# Altium schematic symbol library WR-MPC5.SchLib: 52 symbols
Pins are listed as number, name and electrical type; pins without a type are passive.

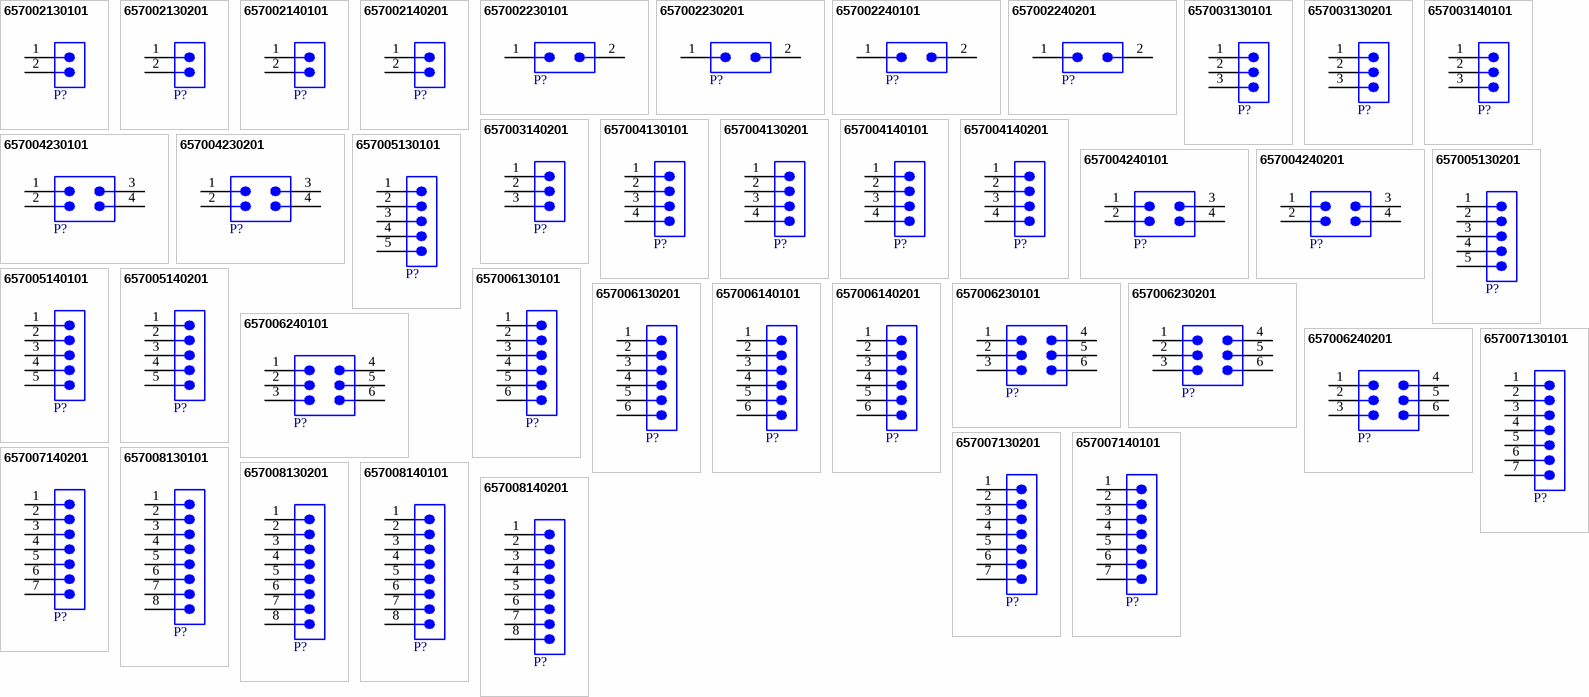
[diagram p0: symbols 657002130101 to 657008140201]

## 657002130101
designator P?  (value not drawn)
WR-MPC5 5.70 mm Male Header Single Row Right Angled, 2p; Manufacturer: Wurth Elektronik; Contact Resistance: 2mOhm; Pitch: 5.7mm; Rated Current: 26A; Working Voltage: 600V (AC); Manufacturer Part Number: 657002130101; Category: Wire-to-Board Connectors; Match Code: WR-MPC5; ComponentLink1Description: Website Link; ComponentLink1URL: https://www.we-online.com/redexpert/article/657002130101?ad; ComponentLink2Description: Datasheet Link; ComponentLink2URL: https://www.we-online.com/redexpert/spec/657002130101?ad; Mount: Through Hole; Operating Temperature Max: 105°C; Operating Temperature Min: -40°C; Packaging: Tray; Gender: Male; Number of Pins: 2; Number of Rows: 1; Orientation: Right Angled
footprint 657002130101
pins: 1, 2

## 657002130201
designator P?  (value not drawn)
WR-MPC5 5.70 mm Male Header Single Row Vertical, 2p; Manufacturer: Wurth Elektronik; Contact Resistance: 2mOhm; Pitch: 5.7mm; Rated Current: 26A; Working Voltage: 600V (AC); Manufacturer Part Number: 657002130201; Category: Wire-to-Board Connectors; Match Code: WR-MPC5; ComponentLink1Description: Website Link; ComponentLink1URL: https://www.we-online.com/redexpert/article/657002130201?ad; ComponentLink2Description: Datasheet Link; ComponentLink2URL: https://www.we-online.com/redexpert/spec/657002130201?ad; Mount: Through Hole; Operating Temperature Max: 105°C; Operating Temperature Min: -40°C; Packaging: Tray; Gender: Male; Number of Pins: 2; Number of Rows: 1; Orientation: Vertical
footprint 657002130201
pins: 1, 2

## 657002140101
designator P?  (value not drawn)
WR-MPC5 5.70 mm Male Header Single Row Right Angled with Snap-in Plastic Pegs, 2p; Manufacturer: Wurth Elektronik; Contact Resistance: 2mOhm; Pitch: 5.7mm; Rated Current: 26A; Working Voltage: 600V (AC); Manufacturer Part Number: 657002140101; Category: Wire-to-Board Connectors; Match Code: WR-MPC5; ComponentLink1Description: Website Link; ComponentLink1URL: https://www.we-online.com/redexpert/article/657002140101?ad; ComponentLink2Description: Datasheet Link; ComponentLink2URL: https://www.we-online.com/redexpert/spec/657002140101?ad; Mount: Through Hole; Operating Temperature Max: 105°C; Operating Temperature Min: -40°C; Packaging: Tray; Gender: Male; Number of Pins: 2; Number of Rows: 1; Orientation: Right Angled
footprint 657002140101
pins: 1, 2

## 657002140201
designator P?  (value not drawn)
WR-MPC5 5.70 mm Male Header Single Row Vertical with Snap-in Plastic Pegs, 2p; Manufacturer: Wurth Elektronik; Contact Resistance: 2mOhm; Pitch: 5.7mm; Rated Current: 26A; Working Voltage: 600V (AC); Manufacturer Part Number: 657002140201; Category: Wire-to-Board Connectors; Match Code: WR-MPC5; ComponentLink1Description: Website Link; ComponentLink1URL: https://www.we-online.com/redexpert/article/657002140201?ad; ComponentLink2Description: Datasheet Link; ComponentLink2URL: https://www.we-online.com/redexpert/spec/657002140201?ad; Mount: Through Hole; Operating Temperature Max: 105°C; Operating Temperature Min: -40°C; Packaging: Tray; Gender: Male; Number of Pins: 2; Number of Rows: 1; Orientation: Vertical
footprint 657002140201
pins: 1, 2

## 657002230101
designator P?  (value not drawn)
WR-MPC5 5.70 mm Male Header Dual Row Right Angled, 2p; Manufacturer: Wurth Elektronik; Contact Resistance: 2mOhm; Pitch: 5.7mm; Rated Current: 26A; Working Voltage: 600V (AC); Manufacturer Part Number: 657002230101; Category: Wire-to-Board Connectors; Match Code: WR-MPC5; ComponentLink1Description: Website Link; ComponentLink1URL: https://www.we-online.com/redexpert/article/657002230101?ad; ComponentLink2Description: Datasheet Link; ComponentLink2URL: https://www.we-online.com/redexpert/spec/657002230101?ad; Mount: Through Hole; Operating Temperature Max: 105°C; Operating Temperature Min: -40°C; Packaging: Tray; Gender: Male; Number of Pins: 2; Number of Rows: 2; Orientation: Right Angled
footprint 657002230101
pins: 1, 2

## 657002230201
designator P?  (value not drawn)
WR-MPC5 5.70 mm Male Header Dual Row Vertical, 2p; Manufacturer: Wurth Elektronik; Contact Resistance: 2mOhm; Pitch: 5.7mm; Rated Current: 26A; Working Voltage: 600V (AC); Manufacturer Part Number: 657002230201; Category: Wire-to-Board Connectors; Match Code: WR-MPC5; ComponentLink1Description: Website Link; ComponentLink1URL: https://www.we-online.com/redexpert/article/657002230201?ad; ComponentLink2Description: Datasheet Link; ComponentLink2URL: https://www.we-online.com/redexpert/spec/657002230201?ad; Mount: Through Hole; Operating Temperature Max: 105°C; Operating Temperature Min: -40°C; Packaging: Tray; Gender: Male; Number of Pins: 2; Number of Rows: 2; Orientation: Vertical
footprint 657002230201
pins: 1, 2

## 657002240101
designator P?  (value not drawn)
WR-MPC5 5.70 mm Male Header Dual Row Right Angled with Snap-in Plastic Pegs, 2p; Manufacturer: Wurth Elektronik; Contact Resistance: 2mOhm; Pitch: 5.7mm; Rated Current: 26A; Working Voltage: 600V (AC); Manufacturer Part Number: 657002240101; Category: Wire-to-Board Connectors; Match Code: WR-MPC5; ComponentLink1Description: Website Link; ComponentLink1URL: https://www.we-online.com/redexpert/article/657002240101?ad; ComponentLink2Description: Datasheet Link; ComponentLink2URL: https://www.we-online.com/redexpert/spec/657002240101?ad; Mount: Through Hole; Operating Temperature Max: 105°C; Operating Temperature Min: -40°C; Packaging: Tray; Gender: Male; Number of Pins: 2; Number of Rows: 2; Orientation: Right Angled
footprint 657002240101
pins: 1, 2

## 657002240201
designator P?  (value not drawn)
WR-MPC5 5.70 mm Male Header Dual Row Vertical with Snap-in Plastic Pegs, 2p; Manufacturer: Wurth Elektronik; Contact Resistance: 2mOhm; Pitch: 5.7mm; Rated Current: 26A; Working Voltage: 600V (AC); Manufacturer Part Number: 657002240201; Category: Wire-to-Board Connectors; Match Code: WR-MPC5; ComponentLink1Description: Website Link; ComponentLink1URL: https://www.we-online.com/redexpert/article/657002240201?ad; ComponentLink2Description: Datasheet Link; ComponentLink2URL: https://www.we-online.com/redexpert/spec/657002240201?ad; Mount: Through Hole; Operating Temperature Max: 105°C; Operating Temperature Min: -40°C; Packaging: Tray; Gender: Male; Number of Pins: 2; Number of Rows: 2; Orientation: Vertical
footprint 657002240201
pins: 1, 2

## 657003130101
designator P?  (value not drawn)
WR-MPC5 5.70 mm Male Header Single Row Right Angled, 3p; Manufacturer: Wurth Elektronik; Contact Resistance: 2mOhm; Pitch: 5.7mm; Rated Current: 26A; Working Voltage: 600V (AC); Manufacturer Part Number: 657003130101; Category: Wire-to-Board Connectors; Match Code: WR-MPC5; ComponentLink1Description: Website Link; ComponentLink1URL: https://www.we-online.com/redexpert/article/657003130101?ad; ComponentLink2Description: Datasheet Link; ComponentLink2URL: https://www.we-online.com/redexpert/spec/657003130101?ad; Mount: Through Hole; Operating Temperature Max: 105°C; Operating Temperature Min: -40°C; Packaging: Tray; Gender: Male; Number of Pins: 3; Number of Rows: 1; Orientation: Right Angled
footprint 657003130101
pins: 1, 2, 3

## 657003130201
designator P?  (value not drawn)
WR-MPC5 5.70 mm Male Header Single Row Vertical, 3p; Manufacturer: Wurth Elektronik; Contact Resistance: 2mOhm; Pitch: 5.7mm; Rated Current: 26A; Working Voltage: 600V (AC); Manufacturer Part Number: 657003130201; Category: Wire-to-Board Connectors; Match Code: WR-MPC5; ComponentLink1Description: Website Link; ComponentLink1URL: https://www.we-online.com/redexpert/article/657003130201?ad; ComponentLink2Description: Datasheet Link; ComponentLink2URL: https://www.we-online.com/redexpert/spec/657003130201?ad; Mount: Through Hole; Operating Temperature Max: 105°C; Operating Temperature Min: -40°C; Packaging: Tray; Gender: Male; Number of Pins: 3; Number of Rows: 1; Orientation: Vertical
footprint 657003130201
pins: 1, 2, 3

## 657003140101
designator P?  (value not drawn)
WR-MPC5 5.70 mm Male Header Single Row Right Angled with Snap-in Plastic Pegs, 3p; Manufacturer: Wurth Elektronik; Contact Resistance: 2mOhm; Pitch: 5.7mm; Rated Current: 26A; Working Voltage: 600V (AC); Manufacturer Part Number: 657003140101; Category: Wire-to-Board Connectors; Match Code: WR-MPC5; ComponentLink1Description: Website Link; ComponentLink1URL: https://www.we-online.com/redexpert/article/657003140101?ad; ComponentLink2Description: Datasheet Link; ComponentLink2URL: https://www.we-online.com/redexpert/spec/657003140101?ad; Mount: Through Hole; Operating Temperature Max: 105°C; Operating Temperature Min: -40°C; Packaging: Tray; Gender: Male; Number of Pins: 3; Number of Rows: 1; Orientation: Right Angled
footprint 657003140101
pins: 1, 2, 3

## 657003140201
designator P?  (value not drawn)
WR-MPC5 5.70 mm Male Header Single Row Vertical with Snap-in Plastic Pegs, 3p; Manufacturer: Wurth Elektronik; Contact Resistance: 2mOhm; Pitch: 5.7mm; Rated Current: 26A; Working Voltage: 600V (AC); Manufacturer Part Number: 657003140201; Category: Wire-to-Board Connectors; Match Code: WR-MPC5; ComponentLink1Description: Website Link; ComponentLink1URL: https://www.we-online.com/redexpert/article/657003140201?ad; ComponentLink2Description: Datasheet Link; ComponentLink2URL: https://www.we-online.com/redexpert/spec/657003140201?ad; Mount: Through Hole; Operating Temperature Max: 105°C; Operating Temperature Min: -40°C; Packaging: Tray; Gender: Male; Number of Pins: 3; Number of Rows: 1; Orientation: Vertical
footprint 657003140201
pins: 1, 2, 3

## 657004130101
designator P?  (value not drawn)
WR-MPC5 5.70 mm Male Header Single Row Right Angled, 4p; Manufacturer: Wurth Elektronik; Contact Resistance: 2mOhm; Pitch: 5.7mm; Rated Current: 26A; Working Voltage: 600V (AC); Manufacturer Part Number: 657004130101; Category: Wire-to-Board Connectors; Match Code: WR-MPC5; ComponentLink1Description: Website Link; ComponentLink1URL: https://www.we-online.com/redexpert/article/657004130101?ad; ComponentLink2Description: Datasheet Link; ComponentLink2URL: https://www.we-online.com/redexpert/spec/657004130101?ad; Mount: Through Hole; Operating Temperature Max: 105°C; Operating Temperature Min: -40°C; Packaging: Tray; Gender: Male; Number of Pins: 4; Number of Rows: 1; Orientation: Right Angled
footprint 657004130101
pins: 1, 2, 3, 4

## 657004130201
designator P?  (value not drawn)
WR-MPC5 5.70 mm Male Header Single Row Vertical, 4p; Manufacturer: Wurth Elektronik; Contact Resistance: 2mOhm; Pitch: 5.7mm; Rated Current: 26A; Working Voltage: 600V (AC); Manufacturer Part Number: 657004130201; Category: Wire-to-Board Connectors; Match Code: WR-MPC5; ComponentLink1Description: Website Link; ComponentLink1URL: https://www.we-online.com/redexpert/article/657004130201?ad; ComponentLink2Description: Datasheet Link; ComponentLink2URL: https://www.we-online.com/redexpert/spec/657004130201?ad; Mount: Through Hole; Operating Temperature Max: 105°C; Operating Temperature Min: -40°C; Packaging: Tray; Gender: Male; Number of Pins: 4; Number of Rows: 1; Orientation: Vertical
footprint 657004130201
pins: 1, 2, 3, 4

## 657004140101
designator P?  (value not drawn)
WR-MPC5 5.70 mm Male Header Single Row Right Angled with Snap-in Plastic Pegs, 4p; Manufacturer: Wurth Elektronik; Contact Resistance: 2mOhm; Pitch: 5.7mm; Rated Current: 26A; Working Voltage: 600V (AC); Manufacturer Part Number: 657004140101; Category: Wire-to-Board Connectors; Match Code: WR-MPC5; ComponentLink1Description: Website Link; ComponentLink1URL: https://www.we-online.com/redexpert/article/657004140101?ad; ComponentLink2Description: Datasheet Link; ComponentLink2URL: https://www.we-online.com/redexpert/spec/657004140101?ad; Mount: Through Hole; Operating Temperature Max: 105°C; Operating Temperature Min: -40°C; Packaging: Tray; Gender: Male; Number of Pins: 4; Number of Rows: 1; Orientation: Right Angled
footprint 657004140101
pins: 1, 2, 3, 4

## 657004140201
designator P?  (value not drawn)
WR-MPC5 5.70 mm Male Header Single Row Vertical with Snap-in Plastic Pegs, 4p; Manufacturer: Wurth Elektronik; Contact Resistance: 2mOhm; Pitch: 5.7mm; Rated Current: 26A; Working Voltage: 600V (AC); Manufacturer Part Number: 657004140201; Category: Wire-to-Board Connectors; Match Code: WR-MPC5; ComponentLink1Description: Website Link; ComponentLink1URL: https://www.we-online.com/redexpert/article/657004140201?ad; ComponentLink2Description: Datasheet Link; ComponentLink2URL: https://www.we-online.com/redexpert/spec/657004140201?ad; Mount: Through Hole; Operating Temperature Max: 105°C; Operating Temperature Min: -40°C; Packaging: Tray; Gender: Male; Number of Pins: 4; Number of Rows: 1; Orientation: Vertical
footprint 657004140201
pins: 1, 2, 3, 4

## 657004230101
designator P?  (value not drawn)
WR-MPC5 5.70 mm Male Header Dual Row Right Angled, 4p; Manufacturer: Wurth Elektronik; Contact Resistance: 2mOhm; Pitch: 5.7mm; Rated Current: 26A; Working Voltage: 600V (AC); Manufacturer Part Number: 657004230101; Category: Wire-to-Board Connectors; Match Code: WR-MPC5; ComponentLink1Description: Website Link; ComponentLink1URL: https://www.we-online.com/redexpert/article/657004230101?ad; ComponentLink2Description: Datasheet Link; ComponentLink2URL: https://www.we-online.com/redexpert/spec/657004230101?ad; Mount: Through Hole; Operating Temperature Max: 105°C; Operating Temperature Min: -40°C; Packaging: Tray; Gender: Male; Number of Pins: 4; Number of Rows: 2; Orientation: Right Angled
footprint 657004230101
pins: 1, 2, 3, 4

## 657004230201
designator P?  (value not drawn)
WR-MPC5 5.70 mm Male Header Dual Row Vertical, 4p; Manufacturer: Wurth Elektronik; Contact Resistance: 2mOhm; Pitch: 5.7mm; Rated Current: 26A; Working Voltage: 600V (AC); Manufacturer Part Number: 657004230201; Category: Wire-to-Board Connectors; Match Code: WR-MPC5; ComponentLink1Description: Website Link; ComponentLink1URL: https://www.we-online.com/redexpert/article/657004230201?ad; ComponentLink2Description: Datasheet Link; ComponentLink2URL: https://www.we-online.com/redexpert/spec/657004230201?ad; Mount: Through Hole; Operating Temperature Max: 105°C; Operating Temperature Min: -40°C; Packaging: Tray; Gender: Male; Number of Pins: 4; Number of Rows: 2; Orientation: Vertical
footprint 657004230201
pins: 1, 2, 3, 4

## 657004240101
designator P?  (value not drawn)
WR-MPC5 5.70 mm Male Header Dual Row Right Angled with Snap-in Plastic Pegs, 4p; Manufacturer: Wurth Elektronik; Contact Resistance: 2mOhm; Pitch: 5.7mm; Rated Current: 26A; Working Voltage: 600V (AC); Manufacturer Part Number: 657004240101; Category: Wire-to-Board Connectors; Match Code: WR-MPC5; ComponentLink1Description: Website Link; ComponentLink1URL: https://www.we-online.com/redexpert/article/657004240101?ad; ComponentLink2Description: Datasheet Link; ComponentLink2URL: https://www.we-online.com/redexpert/spec/657004240101?ad; Mount: Through Hole; Operating Temperature Max: 105°C; Operating Temperature Min: -40°C; Packaging: Tray; Gender: Male; Number of Pins: 4; Number of Rows: 2; Orientation: Right Angled
footprint 657004240101
pins: 1, 2, 3, 4

## 657004240201
designator P?  (value not drawn)
WR-MPC5 5.70 mm Male Header Dual Row Vertical with Snap-in Plastic Pegs, 4p; Manufacturer: Wurth Elektronik; Contact Resistance: 2mOhm; Pitch: 5.7mm; Rated Current: 26A; Working Voltage: 600V (AC); Manufacturer Part Number: 657004240201; Category: Wire-to-Board Connectors; Match Code: WR-MPC5; ComponentLink1Description: Website Link; ComponentLink1URL: https://www.we-online.com/redexpert/article/657004240201?ad; ComponentLink2Description: Datasheet Link; ComponentLink2URL: https://www.we-online.com/redexpert/spec/657004240201?ad; Mount: Through Hole; Operating Temperature Max: 105°C; Operating Temperature Min: -40°C; Packaging: Tray; Gender: Male; Number of Pins: 4; Number of Rows: 2; Orientation: Vertical
footprint 657004240201
pins: 1, 2, 3, 4

## 657005130101
designator P?  (value not drawn)
WR-MPC5 5.70 mm Male Header Single Row Right Angled, 5p; Manufacturer: Wurth Elektronik; Contact Resistance: 2mOhm; Pitch: 5.7mm; Rated Current: 26A; Working Voltage: 600V (AC); Manufacturer Part Number: 657005130101; Category: Wire-to-Board Connectors; Match Code: WR-MPC5; ComponentLink1Description: Website Link; ComponentLink1URL: https://www.we-online.com/redexpert/article/657005130101?ad; ComponentLink2Description: Datasheet Link; ComponentLink2URL: https://www.we-online.com/redexpert/spec/657005130101?ad; Mount: Through Hole; Operating Temperature Max: 105°C; Operating Temperature Min: -40°C; Packaging: Tray; Gender: Male; Number of Pins: 5; Number of Rows: 1; Orientation: Right Angled
footprint 657005130101
pins: 1, 2, 3, 4, 5

## 657005130201
designator P?  (value not drawn)
WR-MPC5 5.70 mm Male Header Single Row Vertical, 5p; Manufacturer: Wurth Elektronik; Contact Resistance: 2mOhm; Pitch: 5.7mm; Rated Current: 26A; Working Voltage: 600V (AC); Manufacturer Part Number: 657005130201; Category: Wire-to-Board Connectors; Match Code: WR-MPC5; ComponentLink1Description: Website Link; ComponentLink1URL: https://www.we-online.com/redexpert/article/657005130201?ad; ComponentLink2Description: Datasheet Link; ComponentLink2URL: https://www.we-online.com/redexpert/spec/657005130201?ad; Mount: Through Hole; Operating Temperature Max: 105°C; Operating Temperature Min: -40°C; Packaging: Tray; Gender: Male; Number of Pins: 5; Number of Rows: 1; Orientation: Vertical
footprint 657005130201
pins: 1, 2, 3, 4, 5

## 657005140101
designator P?  (value not drawn)
WR-MPC5 5.70 mm Male Header Single Row Right Angled with Snap-in Plastic Pegs, 5p; Manufacturer: Wurth Elektronik; Contact Resistance: 2mOhm; Pitch: 5.7mm; Rated Current: 26A; Working Voltage: 600V (AC); Manufacturer Part Number: 657005140101; Category: Wire-to-Board Connectors; Match Code: WR-MPC5; ComponentLink1Description: Website Link; ComponentLink1URL: https://www.we-online.com/redexpert/article/657005140101?ad; ComponentLink2Description: Datasheet Link; ComponentLink2URL: https://www.we-online.com/redexpert/spec/657005140101?ad; Mount: Through Hole; Operating Temperature Max: 105°C; Operating Temperature Min: -40°C; Packaging: Tray; Gender: Male; Number of Pins: 5; Number of Rows: 1; Orientation: Right Angled
footprint 657005140101
pins: 1, 2, 3, 4, 5

## 657005140201
designator P?  (value not drawn)
WR-MPC5 5.70 mm Male Header Single Row Vertical with Snap-in Plastic Pegs, 5p; Manufacturer: Wurth Elektronik; Contact Resistance: 2mOhm; Pitch: 5.7mm; Rated Current: 26A; Working Voltage: 600V (AC); Manufacturer Part Number: 657005140201; Category: Wire-to-Board Connectors; Match Code: WR-MPC5; ComponentLink1Description: Website Link; ComponentLink1URL: https://www.we-online.com/redexpert/article/657005140201?ad; ComponentLink2Description: Datasheet Link; ComponentLink2URL: https://www.we-online.com/redexpert/spec/657005140201?ad; Mount: Through Hole; Operating Temperature Max: 105°C; Operating Temperature Min: -40°C; Packaging: Tray; Gender: Male; Number of Pins: 5; Number of Rows: 1; Orientation: Vertical
footprint 657005140201
pins: 1, 2, 3, 4, 5

## 657006130101
designator P?  (value not drawn)
WR-MPC5 5.70 mm Male Header Single Row Right Angled, 6p; Manufacturer: Wurth Elektronik; Contact Resistance: 2mOhm; Pitch: 5.7mm; Rated Current: 26A; Working Voltage: 600V (AC); Manufacturer Part Number: 657006130101; Category: Wire-to-Board Connectors; Match Code: WR-MPC5; ComponentLink1Description: Website Link; ComponentLink1URL: https://www.we-online.com/redexpert/article/657006130101?ad; ComponentLink2Description: Datasheet Link; ComponentLink2URL: https://www.we-online.com/redexpert/spec/657006130101?ad; Mount: Through Hole; Operating Temperature Max: 105°C; Operating Temperature Min: -40°C; Packaging: Tray; Gender: Male; Number of Pins: 6; Number of Rows: 1; Orientation: Right Angled
footprint 657006130101
pins: 1, 2, 3, 4, 5, 6

## 657006130201
designator P?  (value not drawn)
WR-MPC5 5.70 mm Male Header Single Row Vertical, 6p; Manufacturer: Wurth Elektronik; Contact Resistance: 2mOhm; Pitch: 5.7mm; Rated Current: 26A; Working Voltage: 600V (AC); Manufacturer Part Number: 657006130201; Category: Wire-to-Board Connectors; Match Code: WR-MPC5; ComponentLink1Description: Website Link; ComponentLink1URL: https://www.we-online.com/redexpert/article/657006130201?ad; ComponentLink2Description: Datasheet Link; ComponentLink2URL: https://www.we-online.com/redexpert/spec/657006130201?ad; Mount: Through Hole; Operating Temperature Max: 105°C; Operating Temperature Min: -40°C; Packaging: Tray; Gender: Male; Number of Pins: 6; Number of Rows: 1; Orientation: Vertical
footprint 657006130201
pins: 1, 2, 3, 4, 5, 6

## 657006140101
designator P?  (value not drawn)
WR-MPC5 5.70 mm Male Header Single Row Right Angled with Snap-in Plastic Pegs, 6p; Manufacturer: Wurth Elektronik; Contact Resistance: 2mOhm; Pitch: 5.7mm; Rated Current: 26A; Working Voltage: 600V (AC); Manufacturer Part Number: 657006140101; Category: Wire-to-Board Connectors; Match Code: WR-MPC5; ComponentLink1Description: Website Link; ComponentLink1URL: https://www.we-online.com/redexpert/article/657006140101?ad; ComponentLink2Description: Datasheet Link; ComponentLink2URL: https://www.we-online.com/redexpert/spec/657006140101?ad; Mount: Through Hole; Operating Temperature Max: 105°C; Operating Temperature Min: -40°C; Packaging: Tray; Gender: Male; Number of Pins: 6; Number of Rows: 1; Orientation: Right Angled
footprint 657006140101
pins: 1, 2, 3, 4, 5, 6

## 657006140201
designator P?  (value not drawn)
WR-MPC5 5.70 mm Male Header Single Row Vertical with Snap-in Plastic Pegs, 6p; Manufacturer: Wurth Elektronik; Contact Resistance: 2mOhm; Pitch: 5.7mm; Rated Current: 26A; Working Voltage: 600V (AC); Manufacturer Part Number: 657006140201; Category: Wire-to-Board Connectors; Match Code: WR-MPC5; ComponentLink1Description: Website Link; ComponentLink1URL: https://www.we-online.com/redexpert/article/657006140201?ad; ComponentLink2Description: Datasheet Link; ComponentLink2URL: https://www.we-online.com/redexpert/spec/657006140201?ad; Mount: Through Hole; Operating Temperature Max: 105°C; Operating Temperature Min: -40°C; Packaging: Tray; Gender: Male; Number of Pins: 6; Number of Rows: 1; Orientation: Vertical
footprint 657006140201
pins: 1, 2, 3, 4, 5, 6

## 657006230101
designator P?  (value not drawn)
WR-MPC5 5.70 mm Male Header Dual Row Right Angled, 6p; Manufacturer: Wurth Elektronik; Contact Resistance: 2mOhm; Pitch: 5.7mm; Rated Current: 26A; Working Voltage: 600V (AC); Manufacturer Part Number: 657006230101; Category: Wire-to-Board Connectors; Match Code: WR-MPC5; ComponentLink1Description: Website Link; ComponentLink1URL: https://www.we-online.com/redexpert/article/657006230101?ad; ComponentLink2Description: Datasheet Link; ComponentLink2URL: https://www.we-online.com/redexpert/spec/657006230101?ad; Mount: Through Hole; Operating Temperature Max: 105°C; Operating Temperature Min: -40°C; Packaging: Tray; Gender: Male; Number of Pins: 6; Number of Rows: 2; Orientation: Right Angled
footprint 657006230101
pins: 1, 2, 3, 4, 5, 6

## 657006230201
designator P?  (value not drawn)
WR-MPC5 5.70 mm Male Header Dual Row Vertical, 6p; Manufacturer: Wurth Elektronik; Contact Resistance: 2mOhm; Pitch: 5.7mm; Rated Current: 26A; Working Voltage: 600V (AC); Manufacturer Part Number: 657006230201; Category: Wire-to-Board Connectors; Match Code: WR-MPC5; ComponentLink1Description: Website Link; ComponentLink1URL: https://www.we-online.com/redexpert/article/657006230201?ad; ComponentLink2Description: Datasheet Link; ComponentLink2URL: https://www.we-online.com/redexpert/spec/657006230201?ad; Mount: Through Hole; Operating Temperature Max: 105°C; Operating Temperature Min: -40°C; Packaging: Tray; Gender: Male; Number of Pins: 6; Number of Rows: 2; Orientation: Vertical
footprint 657006230201
pins: 1, 2, 3, 4, 5, 6

## 657006240101
designator P?  (value not drawn)
WR-MPC5 5.70 mm Male Header Dual Row Right Angled with Snap-in Plastic Pegs, 6p; Manufacturer: Wurth Elektronik; Contact Resistance: 2mOhm; Pitch: 5.7mm; Rated Current: 26A; Working Voltage: 600V (AC); Manufacturer Part Number: 657006240101; Category: Wire-to-Board Connectors; Match Code: WR-MPC5; ComponentLink1Description: Website Link; ComponentLink1URL: https://www.we-online.com/redexpert/article/657006240101?ad; ComponentLink2Description: Datasheet Link; ComponentLink2URL: https://www.we-online.com/redexpert/spec/657006240101?ad; Mount: Through Hole; Operating Temperature Max: 105°C; Operating Temperature Min: -40°C; Packaging: Tray; Gender: Male; Number of Pins: 6; Number of Rows: 2; Orientation: Right Angled
footprint 657006240101
pins: 1, 2, 3, 4, 5, 6

## 657006240201
designator P?  (value not drawn)
WR-MPC5 5.70 mm Male Header Dual Row Vertical with Snap-in Plastic Pegs, 6p; Manufacturer: Wurth Elektronik; Contact Resistance: 2mOhm; Pitch: 5.7mm; Rated Current: 26A; Working Voltage: 600V (AC); Manufacturer Part Number: 657006240201; Category: Wire-to-Board Connectors; Match Code: WR-MPC5; ComponentLink1Description: Website Link; ComponentLink1URL: https://www.we-online.com/redexpert/article/657006240201?ad; ComponentLink2Description: Datasheet Link; ComponentLink2URL: https://www.we-online.com/redexpert/spec/657006240201?ad; Mount: Through Hole; Operating Temperature Max: 105°C; Operating Temperature Min: -40°C; Packaging: Tray; Gender: Male; Number of Pins: 6; Number of Rows: 2; Orientation: Vertical
footprint 657006240201
pins: 1, 2, 3, 4, 5, 6

## 657007130101
designator P?  (value not drawn)
WR-MPC5 5.70 mm Male Header Single Row Right Angled, 7p; Manufacturer: Wurth Elektronik; Contact Resistance: 2mOhm; Pitch: 5.7mm; Rated Current: 26A; Working Voltage: 600V (AC); Manufacturer Part Number: 657007130101; Category: Wire-to-Board Connectors; Match Code: WR-MPC5; ComponentLink1Description: Website Link; ComponentLink1URL: https://www.we-online.com/redexpert/article/657007130101?ad; ComponentLink2Description: Datasheet Link; ComponentLink2URL: https://www.we-online.com/redexpert/spec/657007130101?ad; Mount: Through Hole; Operating Temperature Max: 105°C; Operating Temperature Min: -40°C; Packaging: Tray; Gender: Male; Number of Pins: 7; Number of Rows: 1; Orientation: Right Angled
footprint 657007130101
pins: 1, 2, 3, 4, 5, 6, 7

## 657007130201
designator P?  (value not drawn)
WR-MPC5 5.70 mm Male Header Single Row Vertical, 7p; Manufacturer: Wurth Elektronik; Contact Resistance: 2mOhm; Pitch: 5.7mm; Rated Current: 26A; Working Voltage: 600V (AC); Manufacturer Part Number: 657007130201; Category: Wire-to-Board Connectors; Match Code: WR-MPC5; ComponentLink1Description: Website Link; ComponentLink1URL: https://www.we-online.com/redexpert/article/657007130201?ad; ComponentLink2Description: Datasheet Link; ComponentLink2URL: https://www.we-online.com/redexpert/spec/657007130201?ad; Mount: Through Hole; Operating Temperature Max: 105°C; Operating Temperature Min: -40°C; Packaging: Tray; Gender: Male; Number of Pins: 7; Number of Rows: 1; Orientation: Vertical
footprint 657007130201
pins: 1, 2, 3, 4, 5, 6, 7

## 657007140101
designator P?  (value not drawn)
WR-MPC5 5.70 mm Male Header Single Row Right Angled with Snap-in Plastic Pegs, 7p; Manufacturer: Wurth Elektronik; Contact Resistance: 2mOhm; Pitch: 5.7mm; Rated Current: 26A; Working Voltage: 600V (AC); Manufacturer Part Number: 657007140101; Category: Wire-to-Board Connectors; Match Code: WR-MPC5; ComponentLink1Description: Website Link; ComponentLink1URL: https://www.we-online.com/redexpert/article/657007140101?ad; ComponentLink2Description: Datasheet Link; ComponentLink2URL: https://www.we-online.com/redexpert/spec/657007140101?ad; Mount: Through Hole; Operating Temperature Max: 105°C; Operating Temperature Min: -40°C; Packaging: Tray; Gender: Male; Number of Pins: 7; Number of Rows: 1; Orientation: Right Angled
footprint 657007140101
pins: 1, 2, 3, 4, 5, 6, 7

## 657007140201
designator P?  (value not drawn)
WR-MPC5 5.70 mm Male Header Single Row Vertical with Snap-in Plastic Pegs, 7p; Manufacturer: Wurth Elektronik; Contact Resistance: 2mOhm; Pitch: 5.7mm; Rated Current: 26A; Working Voltage: 600V (AC); Manufacturer Part Number: 657007140201; Category: Wire-to-Board Connectors; Match Code: WR-MPC5; ComponentLink1Description: Website Link; ComponentLink1URL: https://www.we-online.com/redexpert/article/657007140201?ad; ComponentLink2Description: Datasheet Link; ComponentLink2URL: https://www.we-online.com/redexpert/spec/657007140201?ad; Mount: Through Hole; Operating Temperature Max: 105°C; Operating Temperature Min: -40°C; Packaging: Tray; Gender: Male; Number of Pins: 7; Number of Rows: 1; Orientation: Vertical
footprint 657007140201
pins: 1, 2, 3, 4, 5, 6, 7

## 657008130101
designator P?  (value not drawn)
WR-MPC5 5.70 mm Male Header Single Row Right Angled, 8p; Manufacturer: Wurth Elektronik; Contact Resistance: 2mOhm; Pitch: 5.7mm; Rated Current: 26A; Working Voltage: 600V (AC); Manufacturer Part Number: 657008130101; Category: Wire-to-Board Connectors; Match Code: WR-MPC5; ComponentLink1Description: Website Link; ComponentLink1URL: https://www.we-online.com/redexpert/article/657008130101?ad; ComponentLink2Description: Datasheet Link; ComponentLink2URL: https://www.we-online.com/redexpert/spec/657008130101?ad; Mount: Through Hole; Operating Temperature Max: 105°C; Operating Temperature Min: -40°C; Packaging: Tray; Gender: Male; Number of Pins: 8; Number of Rows: 1; Orientation: Right Angled
footprint 657008130101
pins: 1, 2, 3, 4, 5, 6, 7, 8

## 657008130201
designator P?  (value not drawn)
WR-MPC5 5.70 mm Male Header Single Row Vertical, 8p; Manufacturer: Wurth Elektronik; Contact Resistance: 2mOhm; Pitch: 5.7mm; Rated Current: 26A; Working Voltage: 600V (AC); Manufacturer Part Number: 657008130201; Category: Wire-to-Board Connectors; Match Code: WR-MPC5; ComponentLink1Description: Website Link; ComponentLink1URL: https://www.we-online.com/redexpert/article/657008130201?ad; ComponentLink2Description: Datasheet Link; ComponentLink2URL: https://www.we-online.com/redexpert/spec/657008130201?ad; Mount: Through Hole; Operating Temperature Max: 105°C; Operating Temperature Min: -40°C; Packaging: Tray; Gender: Male; Number of Pins: 8; Number of Rows: 1; Orientation: Vertical
footprint 657008130201
pins: 1, 2, 3, 4, 5, 6, 7, 8

## 657008140101
designator P?  (value not drawn)
WR-MPC5 5.70 mm Male Header Single Row Right Angled with Snap-in Plastic Pegs, 8p; Manufacturer: Wurth Elektronik; Contact Resistance: 2mOhm; Pitch: 5.7mm; Rated Current: 26A; Working Voltage: 600V (AC); Manufacturer Part Number: 657008140101; Category: Wire-to-Board Connectors; Match Code: WR-MPC5; ComponentLink1Description: Website Link; ComponentLink1URL: https://www.we-online.com/redexpert/article/657008140101?ad; ComponentLink2Description: Datasheet Link; ComponentLink2URL: https://www.we-online.com/redexpert/spec/657008140101?ad; Mount: Through Hole; Operating Temperature Max: 105°C; Operating Temperature Min: -40°C; Packaging: Tray; Gender: Male; Number of Pins: 8; Number of Rows: 1; Orientation: Right Angled
footprint 657008140101
pins: 1, 2, 3, 4, 5, 6, 7, 8

## 657008140201
designator P?  (value not drawn)
WR-MPC5 5.70 mm Male Header Single Row Vertical with Snap-in Plastic Pegs, 8p; Manufacturer: Wurth Elektronik; Contact Resistance: 2mOhm; Pitch: 5.7mm; Rated Current: 26A; Working Voltage: 600V (AC); Manufacturer Part Number: 657008140201; Category: Wire-to-Board Connectors; Match Code: WR-MPC5; ComponentLink1Description: Website Link; ComponentLink1URL: https://www.we-online.com/redexpert/article/657008140201?ad; ComponentLink2Description: Datasheet Link; ComponentLink2URL: https://www.we-online.com/redexpert/spec/657008140201?ad; Mount: Through Hole; Operating Temperature Max: 105°C; Operating Temperature Min: -40°C; Packaging: Tray; Gender: Male; Number of Pins: 8; Number of Rows: 1; Orientation: Vertical
footprint 657008140201
pins: 1, 2, 3, 4, 5, 6, 7, 8

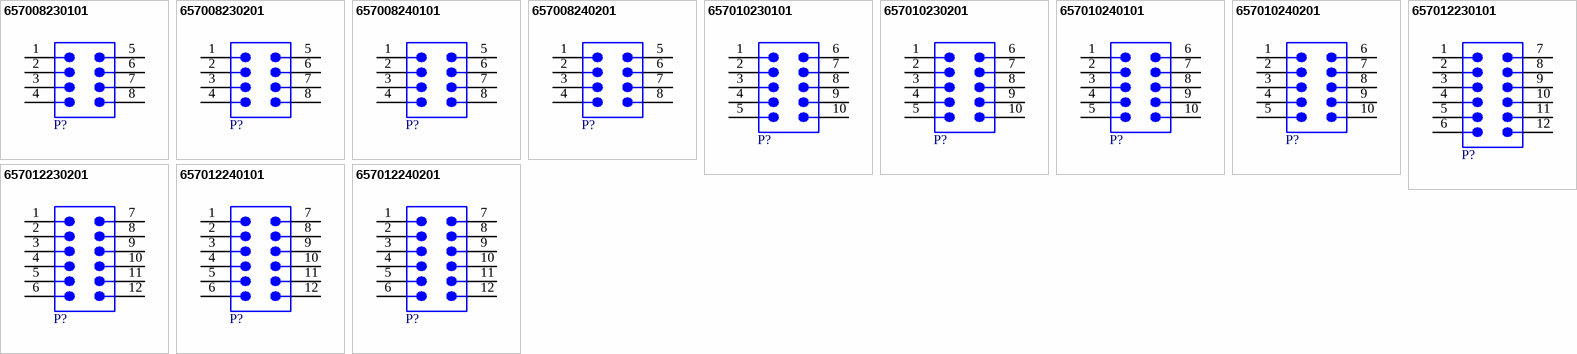
[diagram p1: symbols 657008230101 to 657012240201]

## 657008230101
designator P?  (value not drawn)
WR-MPC5 5.70 mm Male Header Dual Row Right Angled, 8p; Manufacturer: Wurth Elektronik; Contact Resistance: 2mOhm; Pitch: 5.7mm; Rated Current: 26A; Working Voltage: 600V (AC); Manufacturer Part Number: 657008230101; Category: Wire-to-Board Connectors; Match Code: WR-MPC5; ComponentLink1Description: Website Link; ComponentLink1URL: https://www.we-online.com/redexpert/article/657008230101?ad; ComponentLink2Description: Datasheet Link; ComponentLink2URL: https://www.we-online.com/redexpert/spec/657008230101?ad; Mount: Through Hole; Operating Temperature Max: 105°C; Operating Temperature Min: -40°C; Packaging: Tray; Gender: Male; Number of Pins: 8; Number of Rows: 2; Orientation: Right Angled
footprint 657008230101
pins: 1, 2, 3, 4, 5, 6, 7, 8

## 657008230201
designator P?  (value not drawn)
WR-MPC5 5.70 mm Male Header Dual Row Vertical, 8p; Manufacturer: Wurth Elektronik; Contact Resistance: 2mOhm; Pitch: 5.7mm; Rated Current: 26A; Working Voltage: 600V (AC); Manufacturer Part Number: 657008230201; Category: Wire-to-Board Connectors; Match Code: WR-MPC5; ComponentLink1Description: Website Link; ComponentLink1URL: https://www.we-online.com/redexpert/article/657008230201?ad; ComponentLink2Description: Datasheet Link; ComponentLink2URL: https://www.we-online.com/redexpert/spec/657008230201?ad; Mount: Through Hole; Operating Temperature Max: 105°C; Operating Temperature Min: -40°C; Packaging: Tray; Gender: Male; Number of Pins: 8; Number of Rows: 2; Orientation: Vertical
footprint 657008230201
pins: 1, 2, 3, 4, 5, 6, 7, 8

## 657008240101
designator P?  (value not drawn)
WR-MPC5 5.70 mm Male Header Dual Row Right Angled with Snap-in Plastic Pegs, 8p; Manufacturer: Wurth Elektronik; Contact Resistance: 2mOhm; Pitch: 5.7mm; Rated Current: 26A; Working Voltage: 600V (AC); Manufacturer Part Number: 657008240101; Category: Wire-to-Board Connectors; Match Code: WR-MPC5; ComponentLink1Description: Website Link; ComponentLink1URL: https://www.we-online.com/redexpert/article/657008240101?ad; ComponentLink2Description: Datasheet Link; ComponentLink2URL: https://www.we-online.com/redexpert/spec/657008240101?ad; Mount: Through Hole; Operating Temperature Max: 105°C; Operating Temperature Min: -40°C; Packaging: Tray; Gender: Male; Number of Pins: 8; Number of Rows: 2; Orientation: Right Angled
footprint 657008240101
pins: 1, 2, 3, 4, 5, 6, 7, 8

## 657008240201
designator P?  (value not drawn)
WR-MPC5 5.70 mm Male Header Dual Row Vertical with Snap-in Plastic Pegs, 8p; Manufacturer: Wurth Elektronik; Contact Resistance: 2mOhm; Pitch: 5.7mm; Rated Current: 26A; Working Voltage: 600V (AC); Manufacturer Part Number: 657008240201; Category: Wire-to-Board Connectors; Match Code: WR-MPC5; ComponentLink1Description: Website Link; ComponentLink1URL: https://www.we-online.com/redexpert/article/657008240201?ad; ComponentLink2Description: Datasheet Link; ComponentLink2URL: https://www.we-online.com/redexpert/spec/657008240201?ad; Mount: Through Hole; Operating Temperature Max: 105°C; Operating Temperature Min: -40°C; Packaging: Tray; Gender: Male; Number of Pins: 8; Number of Rows: 2; Orientation: Vertical
footprint 657008240201
pins: 1, 2, 3, 4, 5, 6, 7, 8

## 657010230101
designator P?  (value not drawn)
WR-MPC5 5.70 mm Male Header Dual Row Right Angled, 10p; Manufacturer: Wurth Elektronik; Contact Resistance: 2mOhm; Pitch: 5.7mm; Rated Current: 26A; Working Voltage: 600V (AC); Manufacturer Part Number: 657010230101; Category: Wire-to-Board Connectors; Match Code: WR-MPC5; ComponentLink1Description: Website Link; ComponentLink1URL: https://www.we-online.com/redexpert/article/657010230101?ad; ComponentLink2Description: Datasheet Link; ComponentLink2URL: https://www.we-online.com/redexpert/spec/657010230101?ad; Mount: Through Hole; Operating Temperature Max: 105°C; Operating Temperature Min: -40°C; Packaging: Tray; Gender: Male; Number of Pins: 10; Number of Rows: 2; Orientation: Right Angled
footprint 657010230101
pins: 1, 2, 3, 4, 5, 6, 7, 8, 9, 10

## 657010230201
designator P?  (value not drawn)
WR-MPC5 5.70 mm Male Header Dual Row Vertical, 10p; Manufacturer: Wurth Elektronik; Contact Resistance: 2mOhm; Pitch: 5.7mm; Rated Current: 26A; Working Voltage: 600V (AC); Manufacturer Part Number: 657010230201; Category: Wire-to-Board Connectors; Match Code: WR-MPC5; ComponentLink1Description: Website Link; ComponentLink1URL: https://www.we-online.com/redexpert/article/657010230201?ad; ComponentLink2Description: Datasheet Link; ComponentLink2URL: https://www.we-online.com/redexpert/spec/657010230201?ad; Mount: Through Hole; Operating Temperature Max: 105°C; Operating Temperature Min: -40°C; Packaging: Tray; Gender: Male; Number of Pins: 10; Number of Rows: 2; Orientation: Vertical
footprint 657010230201
pins: 1, 2, 3, 4, 5, 6, 7, 8, 9, 10

## 657010240101
designator P?  (value not drawn)
WR-MPC5 5.70 mm Male Header Dual Row Right Angled with Snap-in Plastic Pegs, 10p; Manufacturer: Wurth Elektronik; Contact Resistance: 2mOhm; Pitch: 5.7mm; Rated Current: 26A; Working Voltage: 600V (AC); Manufacturer Part Number: 657010240101; Category: Wire-to-Board Connectors; Match Code: WR-MPC5; ComponentLink1Description: Website Link; ComponentLink1URL: https://www.we-online.com/redexpert/article/657010240101?ad; ComponentLink2Description: Datasheet Link; ComponentLink2URL: https://www.we-online.com/redexpert/spec/657010240101?ad; Mount: Through Hole; Operating Temperature Max: 105°C; Operating Temperature Min: -40°C; Packaging: Tray; Gender: Male; Number of Pins: 10; Number of Rows: 2; Orientation: Right Angled
footprint 657010240101
pins: 1, 2, 3, 4, 5, 6, 7, 8, 9, 10

## 657010240201
designator P?  (value not drawn)
WR-MPC5 5.70 mm Male Header Dual Row Vertical with Snap-in Plastic Pegs, 10p; Manufacturer: Wurth Elektronik; Contact Resistance: 2mOhm; Pitch: 5.7mm; Rated Current: 26A; Working Voltage: 600V (AC); Manufacturer Part Number: 657010240201; Category: Wire-to-Board Connectors; Match Code: WR-MPC5; ComponentLink1Description: Website Link; ComponentLink1URL: https://www.we-online.com/redexpert/article/657010240201?ad; ComponentLink2Description: Datasheet Link; ComponentLink2URL: https://www.we-online.com/redexpert/spec/657010240201?ad; Mount: Through Hole; Operating Temperature Max: 105°C; Operating Temperature Min: -40°C; Packaging: Tray; Gender: Male; Number of Pins: 10; Number of Rows: 2; Orientation: Vertical
footprint 657010240201
pins: 1, 2, 3, 4, 5, 6, 7, 8, 9, 10

## 657012230101
designator P?  (value not drawn)
WR-MPC5 5.70 mm Male Header Dual Row Right Angled, 12p; Manufacturer: Wurth Elektronik; Contact Resistance: 2mOhm; Pitch: 5.7mm; Rated Current: 26A; Working Voltage: 600V (AC); Manufacturer Part Number: 657012230101; Category: Wire-to-Board Connectors; Match Code: WR-MPC5; ComponentLink1Description: Website Link; ComponentLink1URL: https://www.we-online.com/redexpert/article/657012230101?ad; ComponentLink2Description: Datasheet Link; ComponentLink2URL: https://www.we-online.com/redexpert/spec/657012230101?ad; Mount: Through Hole; Operating Temperature Max: 105°C; Operating Temperature Min: -40°C; Packaging: Tray; Gender: Male; Number of Pins: 12; Number of Rows: 2; Orientation: Right Angled
footprint 657012230101
pins: 1, 2, 3, 4, 5, 6, 7, 8, 9, 10, 11, 12

## 657012230201
designator P?  (value not drawn)
WR-MPC5 5.70 mm Male Header Dual Row Vertical, 12p; Manufacturer: Wurth Elektronik; Contact Resistance: 2mOhm; Pitch: 5.7mm; Rated Current: 26A; Working Voltage: 600V (AC); Manufacturer Part Number: 657012230201; Category: Wire-to-Board Connectors; Match Code: WR-MPC5; ComponentLink1Description: Website Link; ComponentLink1URL: https://www.we-online.com/redexpert/article/657012230201?ad; ComponentLink2Description: Datasheet Link; ComponentLink2URL: https://www.we-online.com/redexpert/spec/657012230201?ad; Mount: Through Hole; Operating Temperature Max: 105°C; Operating Temperature Min: -40°C; Packaging: Tray; Gender: Male; Number of Pins: 12; Number of Rows: 2; Orientation: Vertical
footprint 657012230201
pins: 1, 2, 3, 4, 5, 6, 7, 8, 9, 10, 11, 12

## 657012240101
designator P?  (value not drawn)
WR-MPC5 5.70 mm Male Header Dual Row Right Angled with Snap-in Plastic Pegs, 12p; Manufacturer: Wurth Elektronik; Contact Resistance: 2mOhm; Pitch: 5.7mm; Rated Current: 26A; Working Voltage: 600V (AC); Manufacturer Part Number: 657012240101; Category: Wire-to-Board Connectors; Match Code: WR-MPC5; ComponentLink1Description: Website Link; ComponentLink1URL: https://www.we-online.com/redexpert/article/657012240101?ad; ComponentLink2Description: Datasheet Link; ComponentLink2URL: https://www.we-online.com/redexpert/spec/657012240101?ad; Mount: Through Hole; Operating Temperature Max: 105°C; Operating Temperature Min: -40°C; Packaging: Tray; Gender: Male; Number of Pins: 12; Number of Rows: 2; Orientation: Right Angled
footprint 657012240101
pins: 1, 2, 3, 4, 5, 6, 7, 8, 9, 10, 11, 12

## 657012240201
designator P?  (value not drawn)
WR-MPC5 5.70 mm Male Header Dual Row Vertical with Snap-in Plastic Pegs, 12p; Manufacturer: Wurth Elektronik; Contact Resistance: 2mOhm; Pitch: 5.7mm; Rated Current: 26A; Working Voltage: 600V (AC); Manufacturer Part Number: 657012240201; Category: Wire-to-Board Connectors; Match Code: WR-MPC5; ComponentLink1Description: Website Link; ComponentLink1URL: https://www.we-online.com/redexpert/article/657012240201?ad; ComponentLink2Description: Datasheet Link; ComponentLink2URL: https://www.we-online.com/redexpert/spec/657012240201?ad; Mount: Through Hole; Operating Temperature Max: 105°C; Operating Temperature Min: -40°C; Packaging: Tray; Gender: Male; Number of Pins: 12; Number of Rows: 2; Orientation: Vertical
footprint 657012240201
pins: 1, 2, 3, 4, 5, 6, 7, 8, 9, 10, 11, 12